# Altium footprint library Connector_Phoenix_MSTB.PcbLib: 180 footprints (part 9 of 12)
Each footprint in its own frame and in the unit in brackets; x right, y up, seen from the top. Pads: shape width x height; smd on the part's side, far side on the other; paste and mask are expansions set on the pad; w line width, h text height; cw(c..) or ccw(c..) is an arc to the next point about the centre after c.
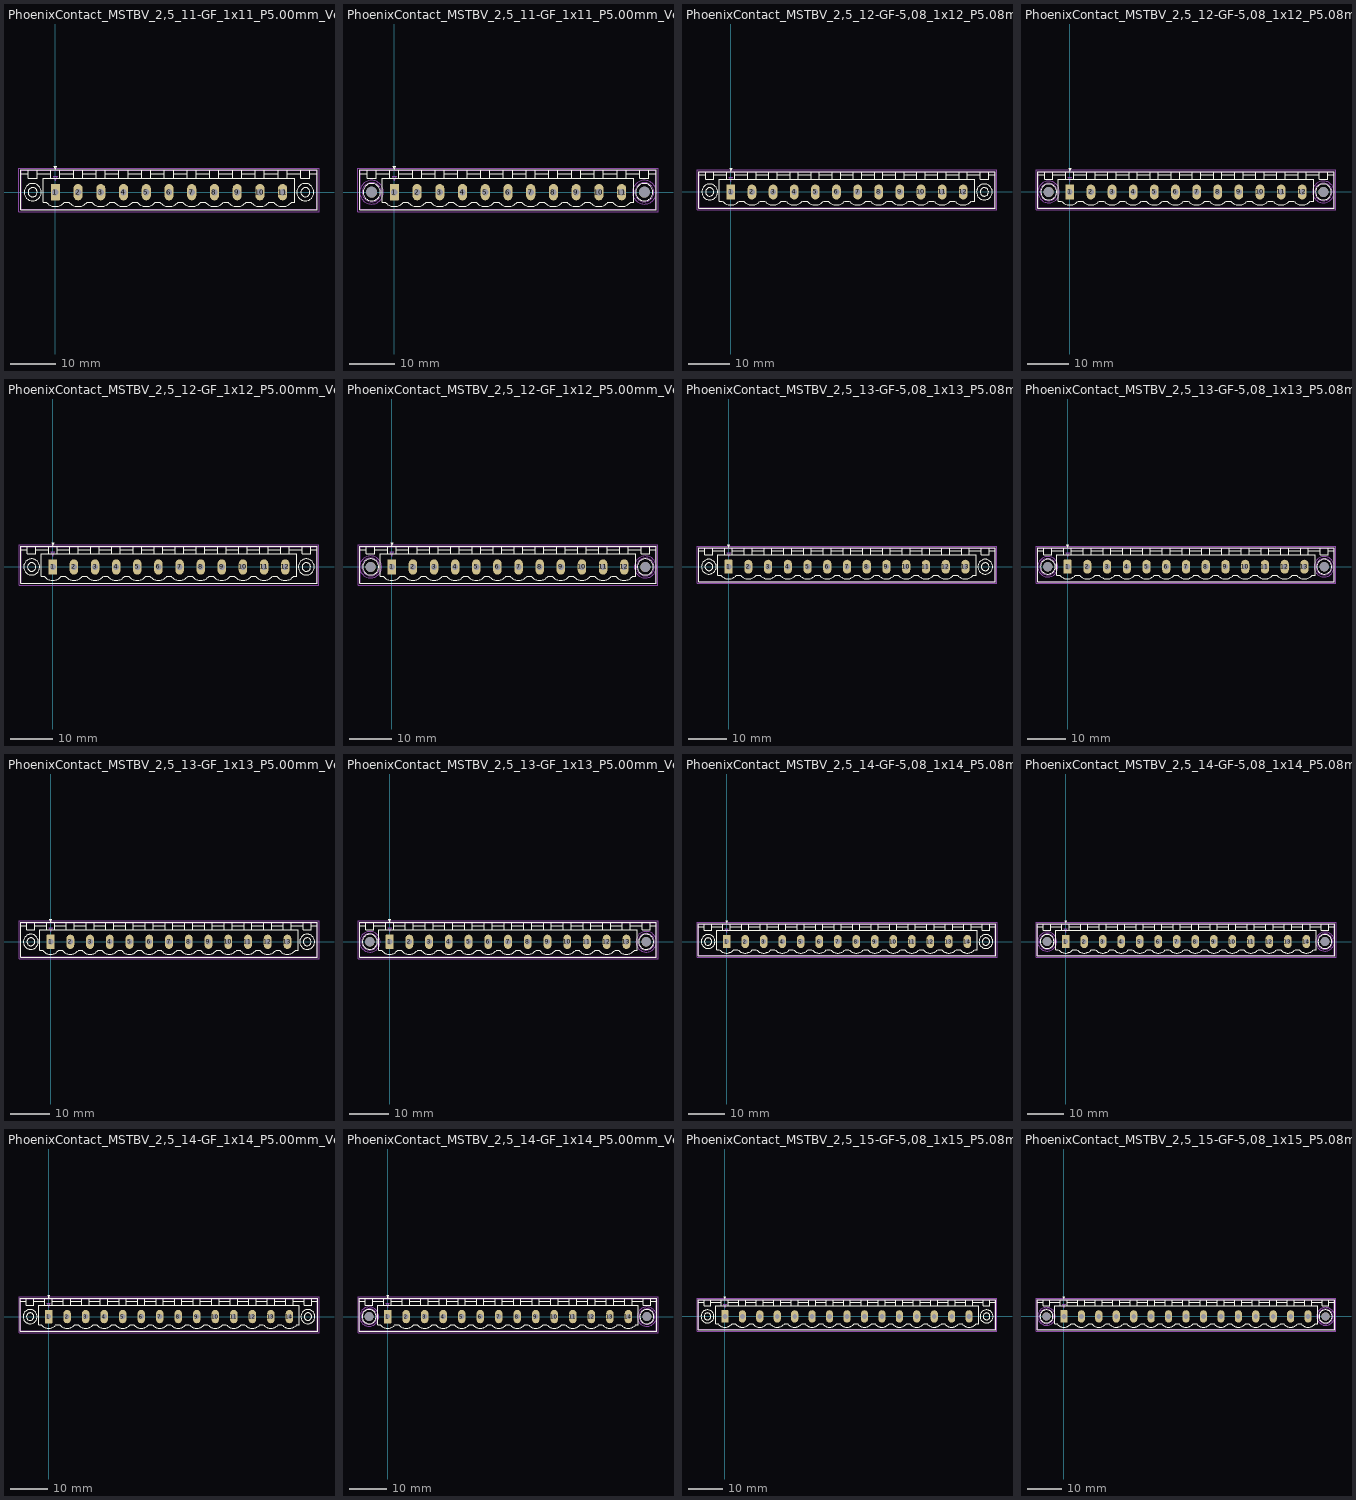
[diagram p8: the footprints below, top view; thin cyan lines are the x and y axes]

## PhoenixContact_MSTBV_2,5_11-GF_1x11_P5.00mm_Vertical_ThreadedFlange [mm]
pads (11):
  rrect12% 2x3.6 hole 1.4: 1(0,0)
  rrect100% 2x3.6 hole 1.4: 2(5,0) 3(10,0) 4(15,0) 5(20,0) 6(25,0) 7(30,0) 8(35,0) 9(40,0) 10(45,0) 11(50,0)
F.SilkS:
  circle w0.254: c55,0 r1.9
  circle w0.254: c55,0 r1
  circle w0.254: c-5,0 r1.9
  circle w0.254: c-5,0 r1
  lines w0.254: -7.61,4.1 -6.11,4.1 ; -4,4.1 -1,4.1 ; 1,4.1 4,4.1 ; 1.987,-2.216 cw(c0,-0.55) -2,-2.2 -2.7,-2.2 -2.7,3.1 52.7,3.1 52.7,-2.2 52,-2.2 ; 2,-2.2 3,-2.2 ccw(c5,-0.55) 6.987,-2.216 ; 6,4.1 9,4.1 ; 7,-2.2 8,-2.2 ccw(c10,-0.55) 11.987,-2.216 ; 11,4.1 14,4.1 ; 12,-2.2 13,-2.2 ccw(c15,-0.55) 16.987,-2.216 ; 16,4.1 19,4.1 ; 17,-2.2 18,-2.2 ccw(c20,-0.55) 21.987,-2.216 ; 21,4.1 24,4.1 ; 22,-2.2 23,-2.2 ccw(c25,-0.55) 26.987,-2.216 ; 26,4.1 29,4.1 ; 27,-2.2 28,-2.2 ccw(c30,-0.55) 31.987,-2.216 ; 31,4.1 34,4.1 ; 32,-2.2 33,-2.2 ccw(c35,-0.55) 36.987,-2.216 ; 36,4.1 39,4.1 ; 37,-2.2 38,-2.2 ccw(c40,-0.55) 41.987,-2.216 ; 41,4.1 44,4.1 ; 42,-2.2 43,-2.2 ccw(c45,-0.55) 46.987,-2.216 ; 46,4.1 49,4.1 ; 47,-2.2 48,-2.2 ccw(c50,-0.55) 51.987,-2.216 ; 51,4.1 54,4.1 ; 56.11,4.1 57.61,4.1 ; -7.61,-3.91 57.61,-3.91 57.61,4.91 -7.61,4.91 -7.61,-3.91 ; -6,3.1 -4,3.1 -4,4.91 -6,4.91 -6,3.1 ; -1,3.1 1,3.1 1,4.91 -1,4.91 -1,3.1 ; -0.3,5.71 0,5.11 0.3,5.71 -0.3,5.71 ; 4,3.1 6,3.1 6,4.91 4,4.91 4,3.1 ; 9,3.1 11,3.1 11,4.91 9,4.91 9,3.1 ; 14,3.1 16,3.1 16,4.91 14,4.91 14,3.1 ; 19,3.1 21,3.1 21,4.91 19,4.91 19,3.1 ; 24,3.1 26,3.1 26,4.91 24,4.91 24,3.1 ; 29,3.1 31,3.1 31,4.91 29,4.91 29,3.1 ; 34,3.1 36,3.1 36,4.91 34,4.91 34,3.1 ; 39,3.1 41,3.1 41,4.91 39,4.91 39,3.1 ; 44,3.1 46,3.1 46,4.91 44,4.91 44,3.1 ; 49,3.1 51,3.1 51,4.91 49,4.91 49,3.1 ; 54,3.1 56,3.1 56,4.91 54,4.91 54,3.1
Top Assembly:
  lines w0.254: -7.5,-3.8 57.5,-3.8 57.5,4.8 -7.5,4.8 -7.5,-3.8 ; -0.5,3.55 0,2.55 0.5,3.55 -0.5,3.55
  text "'.Designator'" at 20.953,3.26 h1
Top Courtyard:
  lines w0.254: -8,-4.3 58,-4.3 58,5.3 -8,5.3 -8,-4.3
Top Designator:
  text ".Designator" at 17.382,0.197 h1.52

## PhoenixContact_MSTBV_2,5_11-GF_1x11_P5.00mm_Vertical_ThreadedFlange_MountHole [mm]
pads (13):
  rrect12% 2x3.6 hole 1.4: 1(0,0)
  rrect100% 2x3.6 hole 1.4: 2(5,0) 3(10,0) 4(15,0) 5(20,0) 6(25,0) 7(30,0) 8(35,0) 9(40,0) 10(45,0) 11(50,0)
  round 2.4 hole 2.4: Un1(-5,0) Un2(55,0)
F.SilkS:
  circle w0.254: c55,0 r1.9
  circle w0.254: c-5,0 r1.9
  lines w0.254: -7.61,4.1 -6.11,4.1 ; -4,4.1 -1,4.1 ; 1,4.1 4,4.1 ; 1.987,-2.216 cw(c0,-0.55) -2,-2.2 -2.7,-2.2 -2.7,3.1 52.7,3.1 52.7,-2.2 52,-2.2 ; 2,-2.2 3,-2.2 ccw(c5,-0.55) 6.987,-2.216 ; 6,4.1 9,4.1 ; 7,-2.2 8,-2.2 ccw(c10,-0.55) 11.987,-2.216 ; 11,4.1 14,4.1 ; 12,-2.2 13,-2.2 ccw(c15,-0.55) 16.987,-2.216 ; 16,4.1 19,4.1 ; 17,-2.2 18,-2.2 ccw(c20,-0.55) 21.987,-2.216 ; 21,4.1 24,4.1 ; 22,-2.2 23,-2.2 ccw(c25,-0.55) 26.987,-2.216 ; 26,4.1 29,4.1 ; 27,-2.2 28,-2.2 ccw(c30,-0.55) 31.987,-2.216 ; 31,4.1 34,4.1 ; 32,-2.2 33,-2.2 ccw(c35,-0.55) 36.987,-2.216 ; 36,4.1 39,4.1 ; 37,-2.2 38,-2.2 ccw(c40,-0.55) 41.987,-2.216 ; 41,4.1 44,4.1 ; 42,-2.2 43,-2.2 ccw(c45,-0.55) 46.987,-2.216 ; 46,4.1 49,4.1 ; 47,-2.2 48,-2.2 ccw(c50,-0.55) 51.987,-2.216 ; 51,4.1 54,4.1 ; 56.11,4.1 57.61,4.1 ; -7.61,-3.91 57.61,-3.91 57.61,4.91 -7.61,4.91 -7.61,-3.91 ; -6,3.1 -4,3.1 -4,4.91 -6,4.91 -6,3.1 ; -1,3.1 1,3.1 1,4.91 -1,4.91 -1,3.1 ; -0.3,5.71 0,5.11 0.3,5.71 -0.3,5.71 ; 4,3.1 6,3.1 6,4.91 4,4.91 4,3.1 ; 9,3.1 11,3.1 11,4.91 9,4.91 9,3.1 ; 14,3.1 16,3.1 16,4.91 14,4.91 14,3.1 ; 19,3.1 21,3.1 21,4.91 19,4.91 19,3.1 ; 24,3.1 26,3.1 26,4.91 24,4.91 24,3.1 ; 29,3.1 31,3.1 31,4.91 29,4.91 29,3.1 ; 34,3.1 36,3.1 36,4.91 34,4.91 34,3.1 ; 39,3.1 41,3.1 41,4.91 39,4.91 39,3.1 ; 44,3.1 46,3.1 46,4.91 44,4.91 44,3.1 ; 49,3.1 51,3.1 51,4.91 49,4.91 49,3.1 ; 54,3.1 56,3.1 56,4.91 54,4.91 54,3.1
B.SilkS:
  circle w0.254: c55,0 r2.21
  circle w0.254: c-5,0 r2.21
Top Assembly:
  lines w0.254: -7.5,-3.8 57.5,-3.8 57.5,4.8 -7.5,4.8 -7.5,-3.8 ; -0.5,3.55 0,2.55 0.5,3.55 -0.5,3.55
  text "'.Designator'" at 20.953,3.26 h1
Bottom Assembly:
  circle w0.254: c55,0 r2.1
  circle w0.254: c-5,0 r2.1
Top Courtyard:
  lines w0.254: -8,-4.3 58,-4.3 58,5.3 -8,5.3 -8,-4.3
Bottom Courtyard:
  circle w0.254: c55,0 r2.6
  circle w0.254: c-5,0 r2.6
Top Designator:
  text ".Designator" at 17.382,0.197 h1.52

## PhoenixContact_MSTBV_2,5_12-GF-5,08_1x12_P5.08mm_Vertical_ThreadedFlange [mm]
pads (12):
  rrect12% 2.08x3.6 hole 1.4: 1(0,0)
  rrect100% 2.08x3.6 hole 1.4: 2(5.08,0) 3(10.16,0) 4(15.24,0) 5(20.32,0) 6(25.4,0) 7(30.48,0) 8(35.56,0) 9(40.64,0) 10(45.72,0) 11(50.8,0) 12(55.88,0)
F.SilkS:
  circle w0.254: c60.96,0 r1.9
  circle w0.254: c60.96,0 r1
  circle w0.254: c-5.08,0 r1.9
  circle w0.254: c-5.08,0 r1
  lines w0.254: -7.73,4.1 -6.19,4.1 ; -4.08,4.1 -1,4.1 ; 1,4.1 4.08,4.1 ; 1.987,-2.216 cw(c0,-0.55) -2,-2.2 -2.74,-2.2 -2.74,3.1 58.62,3.1 58.62,-2.2 57.88,-2.2 ; 2,-2.2 3.08,-2.2 ccw(c5.08,-0.55) 7.067,-2.216 ; 6.08,4.1 9.16,4.1 ; 7.08,-2.2 8.16,-2.2 ccw(c10.16,-0.55) 12.147,-2.216 ; 11.16,4.1 14.24,4.1 ; 12.16,-2.2 13.24,-2.2 ccw(c15.24,-0.55) 17.227,-2.216 ; 16.24,4.1 19.32,4.1 ; 17.24,-2.2 18.32,-2.2 ccw(c20.32,-0.55) 22.307,-2.216 ; 21.32,4.1 24.4,4.1 ; 22.32,-2.2 23.4,-2.2 ccw(c25.4,-0.55) 27.387,-2.216 ; 26.4,4.1 29.48,4.1 ; 27.4,-2.2 28.48,-2.2 ccw(c30.48,-0.55) 32.467,-2.216 ; 31.48,4.1 34.56,4.1 ; 32.48,-2.2 33.56,-2.2 ccw(c35.56,-0.55) 37.547,-2.216 ; 36.56,4.1 39.64,4.1 ; 37.56,-2.2 38.64,-2.2 ccw(c40.64,-0.55) 42.627,-2.216 ; 41.64,4.1 44.72,4.1 ; 42.64,-2.2 43.72,-2.2 ccw(c45.72,-0.55) 47.707,-2.216 ; 46.72,4.1 49.8,4.1 ; 47.72,-2.2 48.8,-2.2 ccw(c50.8,-0.55) 52.787,-2.216 ; 51.8,4.1 54.88,4.1 ; 52.8,-2.2 53.88,-2.2 ccw(c55.88,-0.55) 57.867,-2.216 ; 56.88,4.1 59.96,4.1 ; 62.07,4.1 63.61,4.1 ; -7.73,-3.91 63.61,-3.91 63.61,4.91 -7.73,4.91 -7.73,-3.91 ; -6.08,3.1 -4.08,3.1 -4.08,4.91 -6.08,4.91 -6.08,3.1 ; -1,3.1 1,3.1 1,4.91 -1,4.91 -1,3.1 ; -0.3,5.71 0,5.11 0.3,5.71 -0.3,5.71 ; 4.08,3.1 6.08,3.1 6.08,4.91 4.08,4.91 4.08,3.1 ; 9.16,3.1 11.16,3.1 11.16,4.91 9.16,4.91 9.16,3.1 ; 14.24,3.1 16.24,3.1 16.24,4.91 14.24,4.91 14.24,3.1 ; 19.32,3.1 21.32,3.1 21.32,4.91 19.32,4.91 19.32,3.1 ; 24.4,3.1 26.4,3.1 26.4,4.91 24.4,4.91 24.4,3.1 ; 29.48,3.1 31.48,3.1 31.48,4.91 29.48,4.91 29.48,3.1 ; 34.56,3.1 36.56,3.1 36.56,4.91 34.56,4.91 34.56,3.1 ; 39.64,3.1 41.64,3.1 41.64,4.91 39.64,4.91 39.64,3.1 ; 44.72,3.1 46.72,3.1 46.72,4.91 44.72,4.91 44.72,3.1 ; 49.8,3.1 51.8,3.1 51.8,4.91 49.8,4.91 49.8,3.1 ; 54.88,3.1 56.88,3.1 56.88,4.91 54.88,4.91 54.88,3.1 ; 59.96,3.1 61.96,3.1 61.96,4.91 59.96,4.91 59.96,3.1
Top Assembly:
  lines w0.254: -7.62,-3.8 63.5,-3.8 63.5,4.8 -7.62,4.8 -7.62,-3.8 ; -0.5,3.55 0,2.55 0.5,3.55 -0.5,3.55
  text "'.Designator'" at 23.893,3.26 h1
Top Courtyard:
  lines w0.254: -8.13,-4.3 64,-4.3 64,5.3 -8.13,5.3 -8.13,-4.3
Top Designator:
  text ".Designator" at 20.317,0.197 h1.52

## PhoenixContact_MSTBV_2,5_12-GF-5,08_1x12_P5.08mm_Vertical_ThreadedFlange_MountHole [mm]
pads (14):
  rrect12% 2.08x3.6 hole 1.4: 1(0,0)
  rrect100% 2.08x3.6 hole 1.4: 2(5.08,0) 3(10.16,0) 4(15.24,0) 5(20.32,0) 6(25.4,0) 7(30.48,0) 8(35.56,0) 9(40.64,0) 10(45.72,0) 11(50.8,0) 12(55.88,0)
  round 2.4 hole 2.4: Un1(-5.08,0) Un2(60.96,0)
F.SilkS:
  circle w0.254: c60.96,0 r1.9
  circle w0.254: c-5.08,0 r1.9
  lines w0.254: -7.73,4.1 -6.19,4.1 ; -4.08,4.1 -1,4.1 ; 1,4.1 4.08,4.1 ; 1.987,-2.216 cw(c0,-0.55) -2,-2.2 -2.74,-2.2 -2.74,3.1 58.62,3.1 58.62,-2.2 57.88,-2.2 ; 2,-2.2 3.08,-2.2 ccw(c5.08,-0.55) 7.067,-2.216 ; 6.08,4.1 9.16,4.1 ; 7.08,-2.2 8.16,-2.2 ccw(c10.16,-0.55) 12.147,-2.216 ; 11.16,4.1 14.24,4.1 ; 12.16,-2.2 13.24,-2.2 ccw(c15.24,-0.55) 17.227,-2.216 ; 16.24,4.1 19.32,4.1 ; 17.24,-2.2 18.32,-2.2 ccw(c20.32,-0.55) 22.307,-2.216 ; 21.32,4.1 24.4,4.1 ; 22.32,-2.2 23.4,-2.2 ccw(c25.4,-0.55) 27.387,-2.216 ; 26.4,4.1 29.48,4.1 ; 27.4,-2.2 28.48,-2.2 ccw(c30.48,-0.55) 32.467,-2.216 ; 31.48,4.1 34.56,4.1 ; 32.48,-2.2 33.56,-2.2 ccw(c35.56,-0.55) 37.547,-2.216 ; 36.56,4.1 39.64,4.1 ; 37.56,-2.2 38.64,-2.2 ccw(c40.64,-0.55) 42.627,-2.216 ; 41.64,4.1 44.72,4.1 ; 42.64,-2.2 43.72,-2.2 ccw(c45.72,-0.55) 47.707,-2.216 ; 46.72,4.1 49.8,4.1 ; 47.72,-2.2 48.8,-2.2 ccw(c50.8,-0.55) 52.787,-2.216 ; 51.8,4.1 54.88,4.1 ; 52.8,-2.2 53.88,-2.2 ccw(c55.88,-0.55) 57.867,-2.216 ; 56.88,4.1 59.96,4.1 ; 62.07,4.1 63.61,4.1 ; -7.73,-3.91 63.61,-3.91 63.61,4.91 -7.73,4.91 -7.73,-3.91 ; -6.08,3.1 -4.08,3.1 -4.08,4.91 -6.08,4.91 -6.08,3.1 ; -1,3.1 1,3.1 1,4.91 -1,4.91 -1,3.1 ; -0.3,5.71 0,5.11 0.3,5.71 -0.3,5.71 ; 4.08,3.1 6.08,3.1 6.08,4.91 4.08,4.91 4.08,3.1 ; 9.16,3.1 11.16,3.1 11.16,4.91 9.16,4.91 9.16,3.1 ; 14.24,3.1 16.24,3.1 16.24,4.91 14.24,4.91 14.24,3.1 ; 19.32,3.1 21.32,3.1 21.32,4.91 19.32,4.91 19.32,3.1 ; 24.4,3.1 26.4,3.1 26.4,4.91 24.4,4.91 24.4,3.1 ; 29.48,3.1 31.48,3.1 31.48,4.91 29.48,4.91 29.48,3.1 ; 34.56,3.1 36.56,3.1 36.56,4.91 34.56,4.91 34.56,3.1 ; 39.64,3.1 41.64,3.1 41.64,4.91 39.64,4.91 39.64,3.1 ; 44.72,3.1 46.72,3.1 46.72,4.91 44.72,4.91 44.72,3.1 ; 49.8,3.1 51.8,3.1 51.8,4.91 49.8,4.91 49.8,3.1 ; 54.88,3.1 56.88,3.1 56.88,4.91 54.88,4.91 54.88,3.1 ; 59.96,3.1 61.96,3.1 61.96,4.91 59.96,4.91 59.96,3.1
B.SilkS:
  circle w0.254: c60.96,0 r2.21
  circle w0.254: c-5.08,0 r2.21
Top Assembly:
  lines w0.254: -7.62,-3.8 63.5,-3.8 63.5,4.8 -7.62,4.8 -7.62,-3.8 ; -0.5,3.55 0,2.55 0.5,3.55 -0.5,3.55
  text "'.Designator'" at 23.893,3.26 h1
Bottom Assembly:
  circle w0.254: c60.96,0 r2.1
  circle w0.254: c-5.08,0 r2.1
Top Courtyard:
  lines w0.254: -8.13,-4.3 64,-4.3 64,5.3 -8.13,5.3 -8.13,-4.3
Bottom Courtyard:
  circle w0.254: c60.96,0 r2.6
  circle w0.254: c-5.08,0 r2.6
Top Designator:
  text ".Designator" at 20.317,0.197 h1.52

## PhoenixContact_MSTBV_2,5_12-GF_1x12_P5.00mm_Vertical_ThreadedFlange [mm]
pads (12):
  rrect12% 2x3.6 hole 1.4: 1(0,0)
  rrect100% 2x3.6 hole 1.4: 2(5,0) 3(10,0) 4(15,0) 5(20,0) 6(25,0) 7(30,0) 8(35,0) 9(40,0) 10(45,0) 11(50,0) 12(55,0)
F.SilkS:
  circle w0.254: c60,0 r1.9
  circle w0.254: c60,0 r1
  circle w0.254: c-5,0 r1.9
  circle w0.254: c-5,0 r1
  lines w0.254: -7.61,4.1 -6.11,4.1 ; -4,4.1 -1,4.1 ; 1,4.1 4,4.1 ; 1.987,-2.216 cw(c0,-0.55) -2,-2.2 -2.7,-2.2 -2.7,3.1 57.7,3.1 57.7,-2.2 57,-2.2 ; 2,-2.2 3,-2.2 ccw(c5,-0.55) 6.987,-2.216 ; 6,4.1 9,4.1 ; 7,-2.2 8,-2.2 ccw(c10,-0.55) 11.987,-2.216 ; 11,4.1 14,4.1 ; 12,-2.2 13,-2.2 ccw(c15,-0.55) 16.987,-2.216 ; 16,4.1 19,4.1 ; 17,-2.2 18,-2.2 ccw(c20,-0.55) 21.987,-2.216 ; 21,4.1 24,4.1 ; 22,-2.2 23,-2.2 ccw(c25,-0.55) 26.987,-2.216 ; 26,4.1 29,4.1 ; 27,-2.2 28,-2.2 ccw(c30,-0.55) 31.987,-2.216 ; 31,4.1 34,4.1 ; 32,-2.2 33,-2.2 ccw(c35,-0.55) 36.987,-2.216 ; 36,4.1 39,4.1 ; 37,-2.2 38,-2.2 ccw(c40,-0.55) 41.987,-2.216 ; 41,4.1 44,4.1 ; 42,-2.2 43,-2.2 ccw(c45,-0.55) 46.987,-2.216 ; 46,4.1 49,4.1 ; 47,-2.2 48,-2.2 ccw(c50,-0.55) 51.987,-2.216 ; 51,4.1 54,4.1 ; 52,-2.2 53,-2.2 ccw(c55,-0.55) 56.987,-2.216 ; 56,4.1 59,4.1 ; 61.11,4.1 62.61,4.1 ; -7.61,-3.91 62.61,-3.91 62.61,4.91 -7.61,4.91 -7.61,-3.91 ; -6,3.1 -4,3.1 -4,4.91 -6,4.91 -6,3.1 ; -1,3.1 1,3.1 1,4.91 -1,4.91 -1,3.1 ; -0.3,5.71 0,5.11 0.3,5.71 -0.3,5.71 ; 4,3.1 6,3.1 6,4.91 4,4.91 4,3.1 ; 9,3.1 11,3.1 11,4.91 9,4.91 9,3.1 ; 14,3.1 16,3.1 16,4.91 14,4.91 14,3.1 ; 19,3.1 21,3.1 21,4.91 19,4.91 19,3.1 ; 24,3.1 26,3.1 26,4.91 24,4.91 24,3.1 ; 29,3.1 31,3.1 31,4.91 29,4.91 29,3.1 ; 34,3.1 36,3.1 36,4.91 34,4.91 34,3.1 ; 39,3.1 41,3.1 41,4.91 39,4.91 39,3.1 ; 44,3.1 46,3.1 46,4.91 44,4.91 44,3.1 ; 49,3.1 51,3.1 51,4.91 49,4.91 49,3.1 ; 54,3.1 56,3.1 56,4.91 54,4.91 54,3.1 ; 59,3.1 61,3.1 61,4.91 59,4.91 59,3.1
Top Assembly:
  lines w0.254: -7.5,-3.8 62.5,-3.8 62.5,4.8 -7.5,4.8 -7.5,-3.8 ; -0.5,3.55 0,2.55 0.5,3.55 -0.5,3.55
  text "'.Designator'" at 23.453,3.26 h1
Top Courtyard:
  lines w0.254: -8,-4.3 63,-4.3 63,5.3 -8,5.3 -8,-4.3
Top Designator:
  text ".Designator" at 19.882,0.197 h1.52

## PhoenixContact_MSTBV_2,5_12-GF_1x12_P5.00mm_Vertical_ThreadedFlange_MountHole [mm]
pads (14):
  rrect12% 2x3.6 hole 1.4: 1(0,0)
  rrect100% 2x3.6 hole 1.4: 2(5,0) 3(10,0) 4(15,0) 5(20,0) 6(25,0) 7(30,0) 8(35,0) 9(40,0) 10(45,0) 11(50,0) 12(55,0)
  round 2.4 hole 2.4: Un1(-5,0) Un2(60,0)
F.SilkS:
  circle w0.254: c60,0 r1.9
  circle w0.254: c-5,0 r1.9
  lines w0.254: -7.61,4.1 -6.11,4.1 ; -4,4.1 -1,4.1 ; 1,4.1 4,4.1 ; 1.987,-2.216 cw(c0,-0.55) -2,-2.2 -2.7,-2.2 -2.7,3.1 57.7,3.1 57.7,-2.2 57,-2.2 ; 2,-2.2 3,-2.2 ccw(c5,-0.55) 6.987,-2.216 ; 6,4.1 9,4.1 ; 7,-2.2 8,-2.2 ccw(c10,-0.55) 11.987,-2.216 ; 11,4.1 14,4.1 ; 12,-2.2 13,-2.2 ccw(c15,-0.55) 16.987,-2.216 ; 16,4.1 19,4.1 ; 17,-2.2 18,-2.2 ccw(c20,-0.55) 21.987,-2.216 ; 21,4.1 24,4.1 ; 22,-2.2 23,-2.2 ccw(c25,-0.55) 26.987,-2.216 ; 26,4.1 29,4.1 ; 27,-2.2 28,-2.2 ccw(c30,-0.55) 31.987,-2.216 ; 31,4.1 34,4.1 ; 32,-2.2 33,-2.2 ccw(c35,-0.55) 36.987,-2.216 ; 36,4.1 39,4.1 ; 37,-2.2 38,-2.2 ccw(c40,-0.55) 41.987,-2.216 ; 41,4.1 44,4.1 ; 42,-2.2 43,-2.2 ccw(c45,-0.55) 46.987,-2.216 ; 46,4.1 49,4.1 ; 47,-2.2 48,-2.2 ccw(c50,-0.55) 51.987,-2.216 ; 51,4.1 54,4.1 ; 52,-2.2 53,-2.2 ccw(c55,-0.55) 56.987,-2.216 ; 56,4.1 59,4.1 ; 61.11,4.1 62.61,4.1 ; -7.61,-3.91 62.61,-3.91 62.61,4.91 -7.61,4.91 -7.61,-3.91 ; -6,3.1 -4,3.1 -4,4.91 -6,4.91 -6,3.1 ; -1,3.1 1,3.1 1,4.91 -1,4.91 -1,3.1 ; -0.3,5.71 0,5.11 0.3,5.71 -0.3,5.71 ; 4,3.1 6,3.1 6,4.91 4,4.91 4,3.1 ; 9,3.1 11,3.1 11,4.91 9,4.91 9,3.1 ; 14,3.1 16,3.1 16,4.91 14,4.91 14,3.1 ; 19,3.1 21,3.1 21,4.91 19,4.91 19,3.1 ; 24,3.1 26,3.1 26,4.91 24,4.91 24,3.1 ; 29,3.1 31,3.1 31,4.91 29,4.91 29,3.1 ; 34,3.1 36,3.1 36,4.91 34,4.91 34,3.1 ; 39,3.1 41,3.1 41,4.91 39,4.91 39,3.1 ; 44,3.1 46,3.1 46,4.91 44,4.91 44,3.1 ; 49,3.1 51,3.1 51,4.91 49,4.91 49,3.1 ; 54,3.1 56,3.1 56,4.91 54,4.91 54,3.1 ; 59,3.1 61,3.1 61,4.91 59,4.91 59,3.1
B.SilkS:
  circle w0.254: c60,0 r2.21
  circle w0.254: c-5,0 r2.21
Top Assembly:
  lines w0.254: -7.5,-3.8 62.5,-3.8 62.5,4.8 -7.5,4.8 -7.5,-3.8 ; -0.5,3.55 0,2.55 0.5,3.55 -0.5,3.55
  text "'.Designator'" at 23.453,3.26 h1
Bottom Assembly:
  circle w0.254: c60,0 r2.1
  circle w0.254: c-5,0 r2.1
Top Courtyard:
  lines w0.254: -8,-4.3 63,-4.3 63,5.3 -8,5.3 -8,-4.3
Bottom Courtyard:
  circle w0.254: c60,0 r2.6
  circle w0.254: c-5,0 r2.6
Top Designator:
  text ".Designator" at 19.882,0.197 h1.52

## PhoenixContact_MSTBV_2,5_13-GF-5,08_1x13_P5.08mm_Vertical_ThreadedFlange [mm]
pads (13):
  rrect12% 2.08x3.6 hole 1.4: 1(0,0)
  rrect100% 2.08x3.6 hole 1.4: 2(5.08,0) 3(10.16,0) 4(15.24,0) 5(20.32,0) 6(25.4,0) 7(30.48,0) 8(35.56,0) 9(40.64,0) 10(45.72,0) 11(50.8,0) 12(55.88,0) 13(60.96,0)
F.SilkS:
  circle w0.254: c66.04,0 r1.9
  circle w0.254: c66.04,0 r1
  circle w0.254: c-5.08,0 r1.9
  circle w0.254: c-5.08,0 r1
  lines w0.254: -7.73,4.1 -6.19,4.1 ; -4.08,4.1 -1,4.1 ; 1,4.1 4.08,4.1 ; 1.987,-2.216 cw(c0,-0.55) -2,-2.2 -2.74,-2.2 -2.74,3.1 63.7,3.1 63.7,-2.2 62.96,-2.2 ; 2,-2.2 3.08,-2.2 ccw(c5.08,-0.55) 7.067,-2.216 ; 6.08,4.1 9.16,4.1 ; 7.08,-2.2 8.16,-2.2 ccw(c10.16,-0.55) 12.147,-2.216 ; 11.16,4.1 14.24,4.1 ; 12.16,-2.2 13.24,-2.2 ccw(c15.24,-0.55) 17.227,-2.216 ; 16.24,4.1 19.32,4.1 ; 17.24,-2.2 18.32,-2.2 ccw(c20.32,-0.55) 22.307,-2.216 ; 21.32,4.1 24.4,4.1 ; 22.32,-2.2 23.4,-2.2 ccw(c25.4,-0.55) 27.387,-2.216 ; 26.4,4.1 29.48,4.1 ; 27.4,-2.2 28.48,-2.2 ccw(c30.48,-0.55) 32.467,-2.216 ; 31.48,4.1 34.56,4.1 ; 32.48,-2.2 33.56,-2.2 ccw(c35.56,-0.55) 37.547,-2.216 ; 36.56,4.1 39.64,4.1 ; 37.56,-2.2 38.64,-2.2 ccw(c40.64,-0.55) 42.627,-2.216 ; 41.64,4.1 44.72,4.1 ; 42.64,-2.2 43.72,-2.2 ccw(c45.72,-0.55) 47.707,-2.216 ; 46.72,4.1 49.8,4.1 ; 47.72,-2.2 48.8,-2.2 ccw(c50.8,-0.55) 52.787,-2.216 ; 51.8,4.1 54.88,4.1 ; 52.8,-2.2 53.88,-2.2 ccw(c55.88,-0.55) 57.867,-2.216 ; 56.88,4.1 59.96,4.1 ; 57.88,-2.2 58.96,-2.2 ccw(c60.96,-0.55) 62.947,-2.216 ; 61.96,4.1 65.04,4.1 ; 67.15,4.1 68.69,4.1 ; -7.73,-3.91 68.69,-3.91 68.69,4.91 -7.73,4.91 -7.73,-3.91 ; -6.08,3.1 -4.08,3.1 -4.08,4.91 -6.08,4.91 -6.08,3.1 ; -1,3.1 1,3.1 1,4.91 -1,4.91 -1,3.1 ; -0.3,5.71 0,5.11 0.3,5.71 -0.3,5.71 ; 4.08,3.1 6.08,3.1 6.08,4.91 4.08,4.91 4.08,3.1 ; 9.16,3.1 11.16,3.1 11.16,4.91 9.16,4.91 9.16,3.1 ; 14.24,3.1 16.24,3.1 16.24,4.91 14.24,4.91 14.24,3.1 ; 19.32,3.1 21.32,3.1 21.32,4.91 19.32,4.91 19.32,3.1 ; 24.4,3.1 26.4,3.1 26.4,4.91 24.4,4.91 24.4,3.1 ; 29.48,3.1 31.48,3.1 31.48,4.91 29.48,4.91 29.48,3.1 ; 34.56,3.1 36.56,3.1 36.56,4.91 34.56,4.91 34.56,3.1 ; 39.64,3.1 41.64,3.1 41.64,4.91 39.64,4.91 39.64,3.1 ; 44.72,3.1 46.72,3.1 46.72,4.91 44.72,4.91 44.72,3.1 ; 49.8,3.1 51.8,3.1 51.8,4.91 49.8,4.91 49.8,3.1 ; 54.88,3.1 56.88,3.1 56.88,4.91 54.88,4.91 54.88,3.1 ; 59.96,3.1 61.96,3.1 61.96,4.91 59.96,4.91 59.96,3.1 ; 65.04,3.1 67.04,3.1 67.04,4.91 65.04,4.91 65.04,3.1
Top Assembly:
  lines w0.254: -7.62,-3.8 68.58,-3.8 68.58,4.8 -7.62,4.8 -7.62,-3.8 ; -0.5,3.55 0,2.55 0.5,3.55 -0.5,3.55
  text "'.Designator'" at 26.433,3.26 h1
Top Courtyard:
  lines w0.254: -8.13,-4.3 69.08,-4.3 69.08,5.3 -8.13,5.3 -8.13,-4.3
Top Designator:
  text ".Designator" at 22.857,0.197 h1.52

## PhoenixContact_MSTBV_2,5_13-GF-5,08_1x13_P5.08mm_Vertical_ThreadedFlange_MountHole [mm]
pads (15):
  rrect12% 2.08x3.6 hole 1.4: 1(0,0)
  rrect100% 2.08x3.6 hole 1.4: 2(5.08,0) 3(10.16,0) 4(15.24,0) 5(20.32,0) 6(25.4,0) 7(30.48,0) 8(35.56,0) 9(40.64,0) 10(45.72,0) 11(50.8,0) 12(55.88,0) 13(60.96,0)
  round 2.4 hole 2.4: Un1(-5.08,0) Un2(66.04,0)
F.SilkS:
  circle w0.254: c66.04,0 r1.9
  circle w0.254: c-5.08,0 r1.9
  lines w0.254: -7.73,4.1 -6.19,4.1 ; -4.08,4.1 -1,4.1 ; 1,4.1 4.08,4.1 ; 1.987,-2.216 cw(c0,-0.55) -2,-2.2 -2.74,-2.2 -2.74,3.1 63.7,3.1 63.7,-2.2 62.96,-2.2 ; 2,-2.2 3.08,-2.2 ccw(c5.08,-0.55) 7.067,-2.216 ; 6.08,4.1 9.16,4.1 ; 7.08,-2.2 8.16,-2.2 ccw(c10.16,-0.55) 12.147,-2.216 ; 11.16,4.1 14.24,4.1 ; 12.16,-2.2 13.24,-2.2 ccw(c15.24,-0.55) 17.227,-2.216 ; 16.24,4.1 19.32,4.1 ; 17.24,-2.2 18.32,-2.2 ccw(c20.32,-0.55) 22.307,-2.216 ; 21.32,4.1 24.4,4.1 ; 22.32,-2.2 23.4,-2.2 ccw(c25.4,-0.55) 27.387,-2.216 ; 26.4,4.1 29.48,4.1 ; 27.4,-2.2 28.48,-2.2 ccw(c30.48,-0.55) 32.467,-2.216 ; 31.48,4.1 34.56,4.1 ; 32.48,-2.2 33.56,-2.2 ccw(c35.56,-0.55) 37.547,-2.216 ; 36.56,4.1 39.64,4.1 ; 37.56,-2.2 38.64,-2.2 ccw(c40.64,-0.55) 42.627,-2.216 ; 41.64,4.1 44.72,4.1 ; 42.64,-2.2 43.72,-2.2 ccw(c45.72,-0.55) 47.707,-2.216 ; 46.72,4.1 49.8,4.1 ; 47.72,-2.2 48.8,-2.2 ccw(c50.8,-0.55) 52.787,-2.216 ; 51.8,4.1 54.88,4.1 ; 52.8,-2.2 53.88,-2.2 ccw(c55.88,-0.55) 57.867,-2.216 ; 56.88,4.1 59.96,4.1 ; 57.88,-2.2 58.96,-2.2 ccw(c60.96,-0.55) 62.947,-2.216 ; 61.96,4.1 65.04,4.1 ; 67.15,4.1 68.69,4.1 ; -7.73,-3.91 68.69,-3.91 68.69,4.91 -7.73,4.91 -7.73,-3.91 ; -6.08,3.1 -4.08,3.1 -4.08,4.91 -6.08,4.91 -6.08,3.1 ; -1,3.1 1,3.1 1,4.91 -1,4.91 -1,3.1 ; -0.3,5.71 0,5.11 0.3,5.71 -0.3,5.71 ; 4.08,3.1 6.08,3.1 6.08,4.91 4.08,4.91 4.08,3.1 ; 9.16,3.1 11.16,3.1 11.16,4.91 9.16,4.91 9.16,3.1 ; 14.24,3.1 16.24,3.1 16.24,4.91 14.24,4.91 14.24,3.1 ; 19.32,3.1 21.32,3.1 21.32,4.91 19.32,4.91 19.32,3.1 ; 24.4,3.1 26.4,3.1 26.4,4.91 24.4,4.91 24.4,3.1 ; 29.48,3.1 31.48,3.1 31.48,4.91 29.48,4.91 29.48,3.1 ; 34.56,3.1 36.56,3.1 36.56,4.91 34.56,4.91 34.56,3.1 ; 39.64,3.1 41.64,3.1 41.64,4.91 39.64,4.91 39.64,3.1 ; 44.72,3.1 46.72,3.1 46.72,4.91 44.72,4.91 44.72,3.1 ; 49.8,3.1 51.8,3.1 51.8,4.91 49.8,4.91 49.8,3.1 ; 54.88,3.1 56.88,3.1 56.88,4.91 54.88,4.91 54.88,3.1 ; 59.96,3.1 61.96,3.1 61.96,4.91 59.96,4.91 59.96,3.1 ; 65.04,3.1 67.04,3.1 67.04,4.91 65.04,4.91 65.04,3.1
B.SilkS:
  circle w0.254: c66.04,0 r2.21
  circle w0.254: c-5.08,0 r2.21
Top Assembly:
  lines w0.254: -7.62,-3.8 68.58,-3.8 68.58,4.8 -7.62,4.8 -7.62,-3.8 ; -0.5,3.55 0,2.55 0.5,3.55 -0.5,3.55
  text "'.Designator'" at 26.433,3.26 h1
Bottom Assembly:
  circle w0.254: c66.04,0 r2.1
  circle w0.254: c-5.08,0 r2.1
Top Courtyard:
  lines w0.254: -8.13,-4.3 69.08,-4.3 69.08,5.3 -8.13,5.3 -8.13,-4.3
Bottom Courtyard:
  circle w0.254: c66.04,0 r2.6
  circle w0.254: c-5.08,0 r2.6
Top Designator:
  text ".Designator" at 22.857,0.197 h1.52

## PhoenixContact_MSTBV_2,5_13-GF_1x13_P5.00mm_Vertical_ThreadedFlange [mm]
pads (13):
  rrect12% 2x3.6 hole 1.4: 1(0,0)
  rrect100% 2x3.6 hole 1.4: 2(5,0) 3(10,0) 4(15,0) 5(20,0) 6(25,0) 7(30,0) 8(35,0) 9(40,0) 10(45,0) 11(50,0) 12(55,0) 13(60,0)
F.SilkS:
  circle w0.254: c65,0 r1.9
  circle w0.254: c65,0 r1
  circle w0.254: c-5,0 r1.9
  circle w0.254: c-5,0 r1
  lines w0.254: -7.61,4.1 -6.11,4.1 ; -4,4.1 -1,4.1 ; 1,4.1 4,4.1 ; 1.987,-2.216 cw(c0,-0.55) -2,-2.2 -2.7,-2.2 -2.7,3.1 62.7,3.1 62.7,-2.2 62,-2.2 ; 2,-2.2 3,-2.2 ccw(c5,-0.55) 6.987,-2.216 ; 6,4.1 9,4.1 ; 7,-2.2 8,-2.2 ccw(c10,-0.55) 11.987,-2.216 ; 11,4.1 14,4.1 ; 12,-2.2 13,-2.2 ccw(c15,-0.55) 16.987,-2.216 ; 16,4.1 19,4.1 ; 17,-2.2 18,-2.2 ccw(c20,-0.55) 21.987,-2.216 ; 21,4.1 24,4.1 ; 22,-2.2 23,-2.2 ccw(c25,-0.55) 26.987,-2.216 ; 26,4.1 29,4.1 ; 27,-2.2 28,-2.2 ccw(c30,-0.55) 31.987,-2.216 ; 31,4.1 34,4.1 ; 32,-2.2 33,-2.2 ccw(c35,-0.55) 36.987,-2.216 ; 36,4.1 39,4.1 ; 37,-2.2 38,-2.2 ccw(c40,-0.55) 41.987,-2.216 ; 41,4.1 44,4.1 ; 42,-2.2 43,-2.2 ccw(c45,-0.55) 46.987,-2.216 ; 46,4.1 49,4.1 ; 47,-2.2 48,-2.2 ccw(c50,-0.55) 51.987,-2.216 ; 51,4.1 54,4.1 ; 52,-2.2 53,-2.2 ccw(c55,-0.55) 56.987,-2.216 ; 56,4.1 59,4.1 ; 57,-2.2 58,-2.2 ccw(c60,-0.55) 61.987,-2.216 ; 61,4.1 64,4.1 ; 66.11,4.1 67.61,4.1 ; -7.61,-3.91 67.61,-3.91 67.61,4.91 -7.61,4.91 -7.61,-3.91 ; -6,3.1 -4,3.1 -4,4.91 -6,4.91 -6,3.1 ; -1,3.1 1,3.1 1,4.91 -1,4.91 -1,3.1 ; -0.3,5.71 0,5.11 0.3,5.71 -0.3,5.71 ; 4,3.1 6,3.1 6,4.91 4,4.91 4,3.1 ; 9,3.1 11,3.1 11,4.91 9,4.91 9,3.1 ; 14,3.1 16,3.1 16,4.91 14,4.91 14,3.1 ; 19,3.1 21,3.1 21,4.91 19,4.91 19,3.1 ; 24,3.1 26,3.1 26,4.91 24,4.91 24,3.1 ; 29,3.1 31,3.1 31,4.91 29,4.91 29,3.1 ; 34,3.1 36,3.1 36,4.91 34,4.91 34,3.1 ; 39,3.1 41,3.1 41,4.91 39,4.91 39,3.1 ; 44,3.1 46,3.1 46,4.91 44,4.91 44,3.1 ; 49,3.1 51,3.1 51,4.91 49,4.91 49,3.1 ; 54,3.1 56,3.1 56,4.91 54,4.91 54,3.1 ; 59,3.1 61,3.1 61,4.91 59,4.91 59,3.1 ; 64,3.1 66,3.1 66,4.91 64,4.91 64,3.1
Top Assembly:
  lines w0.254: -7.5,-3.8 67.5,-3.8 67.5,4.8 -7.5,4.8 -7.5,-3.8 ; -0.5,3.55 0,2.55 0.5,3.55 -0.5,3.55
  text "'.Designator'" at 25.953,3.26 h1
Top Courtyard:
  lines w0.254: -8,-4.3 68,-4.3 68,5.3 -8,5.3 -8,-4.3
Top Designator:
  text ".Designator" at 22.382,0.197 h1.52

## PhoenixContact_MSTBV_2,5_13-GF_1x13_P5.00mm_Vertical_ThreadedFlange_MountHole [mm]
pads (15):
  rrect12% 2x3.6 hole 1.4: 1(0,0)
  rrect100% 2x3.6 hole 1.4: 2(5,0) 3(10,0) 4(15,0) 5(20,0) 6(25,0) 7(30,0) 8(35,0) 9(40,0) 10(45,0) 11(50,0) 12(55,0) 13(60,0)
  round 2.4 hole 2.4: Un1(-5,0) Un2(65,0)
F.SilkS:
  circle w0.254: c65,0 r1.9
  circle w0.254: c-5,0 r1.9
  lines w0.254: -7.61,4.1 -6.11,4.1 ; -4,4.1 -1,4.1 ; 1,4.1 4,4.1 ; 1.987,-2.216 cw(c0,-0.55) -2,-2.2 -2.7,-2.2 -2.7,3.1 62.7,3.1 62.7,-2.2 62,-2.2 ; 2,-2.2 3,-2.2 ccw(c5,-0.55) 6.987,-2.216 ; 6,4.1 9,4.1 ; 7,-2.2 8,-2.2 ccw(c10,-0.55) 11.987,-2.216 ; 11,4.1 14,4.1 ; 12,-2.2 13,-2.2 ccw(c15,-0.55) 16.987,-2.216 ; 16,4.1 19,4.1 ; 17,-2.2 18,-2.2 ccw(c20,-0.55) 21.987,-2.216 ; 21,4.1 24,4.1 ; 22,-2.2 23,-2.2 ccw(c25,-0.55) 26.987,-2.216 ; 26,4.1 29,4.1 ; 27,-2.2 28,-2.2 ccw(c30,-0.55) 31.987,-2.216 ; 31,4.1 34,4.1 ; 32,-2.2 33,-2.2 ccw(c35,-0.55) 36.987,-2.216 ; 36,4.1 39,4.1 ; 37,-2.2 38,-2.2 ccw(c40,-0.55) 41.987,-2.216 ; 41,4.1 44,4.1 ; 42,-2.2 43,-2.2 ccw(c45,-0.55) 46.987,-2.216 ; 46,4.1 49,4.1 ; 47,-2.2 48,-2.2 ccw(c50,-0.55) 51.987,-2.216 ; 51,4.1 54,4.1 ; 52,-2.2 53,-2.2 ccw(c55,-0.55) 56.987,-2.216 ; 56,4.1 59,4.1 ; 57,-2.2 58,-2.2 ccw(c60,-0.55) 61.987,-2.216 ; 61,4.1 64,4.1 ; 66.11,4.1 67.61,4.1 ; -7.61,-3.91 67.61,-3.91 67.61,4.91 -7.61,4.91 -7.61,-3.91 ; -6,3.1 -4,3.1 -4,4.91 -6,4.91 -6,3.1 ; -1,3.1 1,3.1 1,4.91 -1,4.91 -1,3.1 ; -0.3,5.71 0,5.11 0.3,5.71 -0.3,5.71 ; 4,3.1 6,3.1 6,4.91 4,4.91 4,3.1 ; 9,3.1 11,3.1 11,4.91 9,4.91 9,3.1 ; 14,3.1 16,3.1 16,4.91 14,4.91 14,3.1 ; 19,3.1 21,3.1 21,4.91 19,4.91 19,3.1 ; 24,3.1 26,3.1 26,4.91 24,4.91 24,3.1 ; 29,3.1 31,3.1 31,4.91 29,4.91 29,3.1 ; 34,3.1 36,3.1 36,4.91 34,4.91 34,3.1 ; 39,3.1 41,3.1 41,4.91 39,4.91 39,3.1 ; 44,3.1 46,3.1 46,4.91 44,4.91 44,3.1 ; 49,3.1 51,3.1 51,4.91 49,4.91 49,3.1 ; 54,3.1 56,3.1 56,4.91 54,4.91 54,3.1 ; 59,3.1 61,3.1 61,4.91 59,4.91 59,3.1 ; 64,3.1 66,3.1 66,4.91 64,4.91 64,3.1
B.SilkS:
  circle w0.254: c65,0 r2.21
  circle w0.254: c-5,0 r2.21
Top Assembly:
  lines w0.254: -7.5,-3.8 67.5,-3.8 67.5,4.8 -7.5,4.8 -7.5,-3.8 ; -0.5,3.55 0,2.55 0.5,3.55 -0.5,3.55
  text "'.Designator'" at 25.953,3.26 h1
Bottom Assembly:
  circle w0.254: c65,0 r2.1
  circle w0.254: c-5,0 r2.1
Top Courtyard:
  lines w0.254: -8,-4.3 68,-4.3 68,5.3 -8,5.3 -8,-4.3
Bottom Courtyard:
  circle w0.254: c65,0 r2.6
  circle w0.254: c-5,0 r2.6
Top Designator:
  text ".Designator" at 22.382,0.197 h1.52

## PhoenixContact_MSTBV_2,5_14-GF-5,08_1x14_P5.08mm_Vertical_ThreadedFlange [mm]
pads (14):
  rrect12% 2.08x3.6 hole 1.4: 1(0,0)
  rrect100% 2.08x3.6 hole 1.4: 2(5.08,0) 3(10.16,0) 4(15.24,0) 5(20.32,0) 6(25.4,0) 7(30.48,0) 8(35.56,0) 9(40.64,0) 10(45.72,0) 11(50.8,0) 12(55.88,0) 13(60.96,0) 14(66.04,0)
F.SilkS:
  circle w0.254: c71.12,0 r1.9
  circle w0.254: c71.12,0 r1
  circle w0.254: c-5.08,0 r1.9
  circle w0.254: c-5.08,0 r1
  lines w0.254: -7.73,4.1 -6.19,4.1 ; -4.08,4.1 -1,4.1 ; 1,4.1 4.08,4.1 ; 1.987,-2.216 cw(c0,-0.55) -2,-2.2 -2.74,-2.2 -2.74,3.1 68.78,3.1 68.78,-2.2 68.04,-2.2 ; 2,-2.2 3.08,-2.2 ccw(c5.08,-0.55) 7.067,-2.216 ; 6.08,4.1 9.16,4.1 ; 7.08,-2.2 8.16,-2.2 ccw(c10.16,-0.55) 12.147,-2.216 ; 11.16,4.1 14.24,4.1 ; 12.16,-2.2 13.24,-2.2 ccw(c15.24,-0.55) 17.227,-2.216 ; 16.24,4.1 19.32,4.1 ; 17.24,-2.2 18.32,-2.2 ccw(c20.32,-0.55) 22.307,-2.216 ; 21.32,4.1 24.4,4.1 ; 22.32,-2.2 23.4,-2.2 ccw(c25.4,-0.55) 27.387,-2.216 ; 26.4,4.1 29.48,4.1 ; 27.4,-2.2 28.48,-2.2 ccw(c30.48,-0.55) 32.467,-2.216 ; 31.48,4.1 34.56,4.1 ; 32.48,-2.2 33.56,-2.2 ccw(c35.56,-0.55) 37.547,-2.216 ; 36.56,4.1 39.64,4.1 ; 37.56,-2.2 38.64,-2.2 ccw(c40.64,-0.55) 42.627,-2.216 ; 41.64,4.1 44.72,4.1 ; 42.64,-2.2 43.72,-2.2 ccw(c45.72,-0.55) 47.707,-2.216 ; 46.72,4.1 49.8,4.1 ; 47.72,-2.2 48.8,-2.2 ccw(c50.8,-0.55) 52.787,-2.216 ; 51.8,4.1 54.88,4.1 ; 52.8,-2.2 53.88,-2.2 ccw(c55.88,-0.55) 57.867,-2.216 ; 56.88,4.1 59.96,4.1 ; 57.88,-2.2 58.96,-2.2 ccw(c60.96,-0.55) 62.947,-2.216 ; 61.96,4.1 65.04,4.1 ; 62.96,-2.2 64.04,-2.2 ccw(c66.04,-0.55) 68.027,-2.216 ; 67.04,4.1 70.12,4.1 ; 72.23,4.1 73.77,4.1 ; -7.73,-3.91 73.77,-3.91 73.77,4.91 -7.73,4.91 -7.73,-3.91 ; -6.08,3.1 -4.08,3.1 -4.08,4.91 -6.08,4.91 -6.08,3.1 ; -1,3.1 1,3.1 1,4.91 -1,4.91 -1,3.1 ; -0.3,5.71 0,5.11 0.3,5.71 -0.3,5.71 ; 4.08,3.1 6.08,3.1 6.08,4.91 4.08,4.91 4.08,3.1 ; 9.16,3.1 11.16,3.1 11.16,4.91 9.16,4.91 9.16,3.1 ; 14.24,3.1 16.24,3.1 16.24,4.91 14.24,4.91 14.24,3.1 ; 19.32,3.1 21.32,3.1 21.32,4.91 19.32,4.91 19.32,3.1 ; 24.4,3.1 26.4,3.1 26.4,4.91 24.4,4.91 24.4,3.1 ; 29.48,3.1 31.48,3.1 31.48,4.91 29.48,4.91 29.48,3.1 ; 34.56,3.1 36.56,3.1 36.56,4.91 34.56,4.91 34.56,3.1 ; 39.64,3.1 41.64,3.1 41.64,4.91 39.64,4.91 39.64,3.1 ; 44.72,3.1 46.72,3.1 46.72,4.91 44.72,4.91 44.72,3.1 ; 49.8,3.1 51.8,3.1 51.8,4.91 49.8,4.91 49.8,3.1 ; 54.88,3.1 56.88,3.1 56.88,4.91 54.88,4.91 54.88,3.1 ; 59.96,3.1 61.96,3.1 61.96,4.91 59.96,4.91 59.96,3.1 ; 65.04,3.1 67.04,3.1 67.04,4.91 65.04,4.91 65.04,3.1 ; 70.12,3.1 72.12,3.1 72.12,4.91 70.12,4.91 70.12,3.1
Top Assembly:
  lines w0.254: -7.62,-3.8 73.66,-3.8 73.66,4.8 -7.62,4.8 -7.62,-3.8 ; -0.5,3.55 0,2.55 0.5,3.55 -0.5,3.55
  text "'.Designator'" at 28.973,3.26 h1
Top Courtyard:
  lines w0.254: -8.13,-4.3 74.16,-4.3 74.16,5.3 -8.13,5.3 -8.13,-4.3
Top Designator:
  text ".Designator" at 25.397,0.197 h1.52

## PhoenixContact_MSTBV_2,5_14-GF-5,08_1x14_P5.08mm_Vertical_ThreadedFlange_MountHole [mm]
pads (16):
  rrect12% 2.08x3.6 hole 1.4: 1(0,0)
  rrect100% 2.08x3.6 hole 1.4: 2(5.08,0) 3(10.16,0) 4(15.24,0) 5(20.32,0) 6(25.4,0) 7(30.48,0) 8(35.56,0) 9(40.64,0) 10(45.72,0) 11(50.8,0) 12(55.88,0) 13(60.96,0) 14(66.04,0)
  round 2.4 hole 2.4: Un1(-5.08,0) Un2(71.12,0)
F.SilkS:
  circle w0.254: c71.12,0 r1.9
  circle w0.254: c-5.08,0 r1.9
  lines w0.254: -7.73,4.1 -6.19,4.1 ; -4.08,4.1 -1,4.1 ; 1,4.1 4.08,4.1 ; 1.987,-2.216 cw(c0,-0.55) -2,-2.2 -2.74,-2.2 -2.74,3.1 68.78,3.1 68.78,-2.2 68.04,-2.2 ; 2,-2.2 3.08,-2.2 ccw(c5.08,-0.55) 7.067,-2.216 ; 6.08,4.1 9.16,4.1 ; 7.08,-2.2 8.16,-2.2 ccw(c10.16,-0.55) 12.147,-2.216 ; 11.16,4.1 14.24,4.1 ; 12.16,-2.2 13.24,-2.2 ccw(c15.24,-0.55) 17.227,-2.216 ; 16.24,4.1 19.32,4.1 ; 17.24,-2.2 18.32,-2.2 ccw(c20.32,-0.55) 22.307,-2.216 ; 21.32,4.1 24.4,4.1 ; 22.32,-2.2 23.4,-2.2 ccw(c25.4,-0.55) 27.387,-2.216 ; 26.4,4.1 29.48,4.1 ; 27.4,-2.2 28.48,-2.2 ccw(c30.48,-0.55) 32.467,-2.216 ; 31.48,4.1 34.56,4.1 ; 32.48,-2.2 33.56,-2.2 ccw(c35.56,-0.55) 37.547,-2.216 ; 36.56,4.1 39.64,4.1 ; 37.56,-2.2 38.64,-2.2 ccw(c40.64,-0.55) 42.627,-2.216 ; 41.64,4.1 44.72,4.1 ; 42.64,-2.2 43.72,-2.2 ccw(c45.72,-0.55) 47.707,-2.216 ; 46.72,4.1 49.8,4.1 ; 47.72,-2.2 48.8,-2.2 ccw(c50.8,-0.55) 52.787,-2.216 ; 51.8,4.1 54.88,4.1 ; 52.8,-2.2 53.88,-2.2 ccw(c55.88,-0.55) 57.867,-2.216 ; 56.88,4.1 59.96,4.1 ; 57.88,-2.2 58.96,-2.2 ccw(c60.96,-0.55) 62.947,-2.216 ; 61.96,4.1 65.04,4.1 ; 62.96,-2.2 64.04,-2.2 ccw(c66.04,-0.55) 68.027,-2.216 ; 67.04,4.1 70.12,4.1 ; 72.23,4.1 73.77,4.1 ; -7.73,-3.91 73.77,-3.91 73.77,4.91 -7.73,4.91 -7.73,-3.91 ; -6.08,3.1 -4.08,3.1 -4.08,4.91 -6.08,4.91 -6.08,3.1 ; -1,3.1 1,3.1 1,4.91 -1,4.91 -1,3.1 ; -0.3,5.71 0,5.11 0.3,5.71 -0.3,5.71 ; 4.08,3.1 6.08,3.1 6.08,4.91 4.08,4.91 4.08,3.1 ; 9.16,3.1 11.16,3.1 11.16,4.91 9.16,4.91 9.16,3.1 ; 14.24,3.1 16.24,3.1 16.24,4.91 14.24,4.91 14.24,3.1 ; 19.32,3.1 21.32,3.1 21.32,4.91 19.32,4.91 19.32,3.1 ; 24.4,3.1 26.4,3.1 26.4,4.91 24.4,4.91 24.4,3.1 ; 29.48,3.1 31.48,3.1 31.48,4.91 29.48,4.91 29.48,3.1 ; 34.56,3.1 36.56,3.1 36.56,4.91 34.56,4.91 34.56,3.1 ; 39.64,3.1 41.64,3.1 41.64,4.91 39.64,4.91 39.64,3.1 ; 44.72,3.1 46.72,3.1 46.72,4.91 44.72,4.91 44.72,3.1 ; 49.8,3.1 51.8,3.1 51.8,4.91 49.8,4.91 49.8,3.1 ; 54.88,3.1 56.88,3.1 56.88,4.91 54.88,4.91 54.88,3.1 ; 59.96,3.1 61.96,3.1 61.96,4.91 59.96,4.91 59.96,3.1 ; 65.04,3.1 67.04,3.1 67.04,4.91 65.04,4.91 65.04,3.1 ; 70.12,3.1 72.12,3.1 72.12,4.91 70.12,4.91 70.12,3.1
B.SilkS:
  circle w0.254: c71.12,0 r2.21
  circle w0.254: c-5.08,0 r2.21
Top Assembly:
  lines w0.254: -7.62,-3.8 73.66,-3.8 73.66,4.8 -7.62,4.8 -7.62,-3.8 ; -0.5,3.55 0,2.55 0.5,3.55 -0.5,3.55
  text "'.Designator'" at 28.973,3.26 h1
Bottom Assembly:
  circle w0.254: c71.12,0 r2.1
  circle w0.254: c-5.08,0 r2.1
Top Courtyard:
  lines w0.254: -8.13,-4.3 74.16,-4.3 74.16,5.3 -8.13,5.3 -8.13,-4.3
Bottom Courtyard:
  circle w0.254: c71.12,0 r2.6
  circle w0.254: c-5.08,0 r2.6
Top Designator:
  text ".Designator" at 25.397,0.197 h1.52

## PhoenixContact_MSTBV_2,5_14-GF_1x14_P5.00mm_Vertical_ThreadedFlange [mm]
pads (14):
  rrect12% 2x3.6 hole 1.4: 1(0,0)
  rrect100% 2x3.6 hole 1.4: 2(5,0) 3(10,0) 4(15,0) 5(20,0) 6(25,0) 7(30,0) 8(35,0) 9(40,0) 10(45,0) 11(50,0) 12(55,0) 13(60,0) 14(65,0)
F.SilkS:
  circle w0.254: c70,0 r1.9
  circle w0.254: c70,0 r1
  circle w0.254: c-5,0 r1.9
  circle w0.254: c-5,0 r1
  lines w0.254: -7.61,4.1 -6.11,4.1 ; -4,4.1 -1,4.1 ; 1,4.1 4,4.1 ; 1.987,-2.216 cw(c0,-0.55) -2,-2.2 -2.7,-2.2 -2.7,3.1 67.7,3.1 67.7,-2.2 67,-2.2 ; 2,-2.2 3,-2.2 ccw(c5,-0.55) 6.987,-2.216 ; 6,4.1 9,4.1 ; 7,-2.2 8,-2.2 ccw(c10,-0.55) 11.987,-2.216 ; 11,4.1 14,4.1 ; 12,-2.2 13,-2.2 ccw(c15,-0.55) 16.987,-2.216 ; 16,4.1 19,4.1 ; 17,-2.2 18,-2.2 ccw(c20,-0.55) 21.987,-2.216 ; 21,4.1 24,4.1 ; 22,-2.2 23,-2.2 ccw(c25,-0.55) 26.987,-2.216 ; 26,4.1 29,4.1 ; 27,-2.2 28,-2.2 ccw(c30,-0.55) 31.987,-2.216 ; 31,4.1 34,4.1 ; 32,-2.2 33,-2.2 ccw(c35,-0.55) 36.987,-2.216 ; 36,4.1 39,4.1 ; 37,-2.2 38,-2.2 ccw(c40,-0.55) 41.987,-2.216 ; 41,4.1 44,4.1 ; 42,-2.2 43,-2.2 ccw(c45,-0.55) 46.987,-2.216 ; 46,4.1 49,4.1 ; 47,-2.2 48,-2.2 ccw(c50,-0.55) 51.987,-2.216 ; 51,4.1 54,4.1 ; 52,-2.2 53,-2.2 ccw(c55,-0.55) 56.987,-2.216 ; 56,4.1 59,4.1 ; 57,-2.2 58,-2.2 ccw(c60,-0.55) 61.987,-2.216 ; 61,4.1 64,4.1 ; 62,-2.2 63,-2.2 ccw(c65,-0.55) 66.987,-2.216 ; 66,4.1 69,4.1 ; 71.11,4.1 72.61,4.1 ; -7.61,-3.91 72.61,-3.91 72.61,4.91 -7.61,4.91 -7.61,-3.91 ; -6,3.1 -4,3.1 -4,4.91 -6,4.91 -6,3.1 ; -1,3.1 1,3.1 1,4.91 -1,4.91 -1,3.1 ; -0.3,5.71 0,5.11 0.3,5.71 -0.3,5.71 ; 4,3.1 6,3.1 6,4.91 4,4.91 4,3.1 ; 9,3.1 11,3.1 11,4.91 9,4.91 9,3.1 ; 14,3.1 16,3.1 16,4.91 14,4.91 14,3.1 ; 19,3.1 21,3.1 21,4.91 19,4.91 19,3.1 ; 24,3.1 26,3.1 26,4.91 24,4.91 24,3.1 ; 29,3.1 31,3.1 31,4.91 29,4.91 29,3.1 ; 34,3.1 36,3.1 36,4.91 34,4.91 34,3.1 ; 39,3.1 41,3.1 41,4.91 39,4.91 39,3.1 ; 44,3.1 46,3.1 46,4.91 44,4.91 44,3.1 ; 49,3.1 51,3.1 51,4.91 49,4.91 49,3.1 ; 54,3.1 56,3.1 56,4.91 54,4.91 54,3.1 ; 59,3.1 61,3.1 61,4.91 59,4.91 59,3.1 ; 64,3.1 66,3.1 66,4.91 64,4.91 64,3.1 ; 69,3.1 71,3.1 71,4.91 69,4.91 69,3.1
Top Assembly:
  lines w0.254: -7.5,-3.8 72.5,-3.8 72.5,4.8 -7.5,4.8 -7.5,-3.8 ; -0.5,3.55 0,2.55 0.5,3.55 -0.5,3.55
  text "'.Designator'" at 28.453,3.26 h1
Top Courtyard:
  lines w0.254: -8,-4.3 73,-4.3 73,5.3 -8,5.3 -8,-4.3
Top Designator:
  text ".Designator" at 24.882,0.197 h1.52

## PhoenixContact_MSTBV_2,5_14-GF_1x14_P5.00mm_Vertical_ThreadedFlange_MountHole [mm]
pads (16):
  rrect12% 2x3.6 hole 1.4: 1(0,0)
  rrect100% 2x3.6 hole 1.4: 2(5,0) 3(10,0) 4(15,0) 5(20,0) 6(25,0) 7(30,0) 8(35,0) 9(40,0) 10(45,0) 11(50,0) 12(55,0) 13(60,0) 14(65,0)
  round 2.4 hole 2.4: Un1(-5,0) Un2(70,0)
F.SilkS:
  circle w0.254: c70,0 r1.9
  circle w0.254: c-5,0 r1.9
  lines w0.254: -7.61,4.1 -6.11,4.1 ; -4,4.1 -1,4.1 ; 1,4.1 4,4.1 ; 1.987,-2.216 cw(c0,-0.55) -2,-2.2 -2.7,-2.2 -2.7,3.1 67.7,3.1 67.7,-2.2 67,-2.2 ; 2,-2.2 3,-2.2 ccw(c5,-0.55) 6.987,-2.216 ; 6,4.1 9,4.1 ; 7,-2.2 8,-2.2 ccw(c10,-0.55) 11.987,-2.216 ; 11,4.1 14,4.1 ; 12,-2.2 13,-2.2 ccw(c15,-0.55) 16.987,-2.216 ; 16,4.1 19,4.1 ; 17,-2.2 18,-2.2 ccw(c20,-0.55) 21.987,-2.216 ; 21,4.1 24,4.1 ; 22,-2.2 23,-2.2 ccw(c25,-0.55) 26.987,-2.216 ; 26,4.1 29,4.1 ; 27,-2.2 28,-2.2 ccw(c30,-0.55) 31.987,-2.216 ; 31,4.1 34,4.1 ; 32,-2.2 33,-2.2 ccw(c35,-0.55) 36.987,-2.216 ; 36,4.1 39,4.1 ; 37,-2.2 38,-2.2 ccw(c40,-0.55) 41.987,-2.216 ; 41,4.1 44,4.1 ; 42,-2.2 43,-2.2 ccw(c45,-0.55) 46.987,-2.216 ; 46,4.1 49,4.1 ; 47,-2.2 48,-2.2 ccw(c50,-0.55) 51.987,-2.216 ; 51,4.1 54,4.1 ; 52,-2.2 53,-2.2 ccw(c55,-0.55) 56.987,-2.216 ; 56,4.1 59,4.1 ; 57,-2.2 58,-2.2 ccw(c60,-0.55) 61.987,-2.216 ; 61,4.1 64,4.1 ; 62,-2.2 63,-2.2 ccw(c65,-0.55) 66.987,-2.216 ; 66,4.1 69,4.1 ; 71.11,4.1 72.61,4.1 ; -7.61,-3.91 72.61,-3.91 72.61,4.91 -7.61,4.91 -7.61,-3.91 ; -6,3.1 -4,3.1 -4,4.91 -6,4.91 -6,3.1 ; -1,3.1 1,3.1 1,4.91 -1,4.91 -1,3.1 ; -0.3,5.71 0,5.11 0.3,5.71 -0.3,5.71 ; 4,3.1 6,3.1 6,4.91 4,4.91 4,3.1 ; 9,3.1 11,3.1 11,4.91 9,4.91 9,3.1 ; 14,3.1 16,3.1 16,4.91 14,4.91 14,3.1 ; 19,3.1 21,3.1 21,4.91 19,4.91 19,3.1 ; 24,3.1 26,3.1 26,4.91 24,4.91 24,3.1 ; 29,3.1 31,3.1 31,4.91 29,4.91 29,3.1 ; 34,3.1 36,3.1 36,4.91 34,4.91 34,3.1 ; 39,3.1 41,3.1 41,4.91 39,4.91 39,3.1 ; 44,3.1 46,3.1 46,4.91 44,4.91 44,3.1 ; 49,3.1 51,3.1 51,4.91 49,4.91 49,3.1 ; 54,3.1 56,3.1 56,4.91 54,4.91 54,3.1 ; 59,3.1 61,3.1 61,4.91 59,4.91 59,3.1 ; 64,3.1 66,3.1 66,4.91 64,4.91 64,3.1 ; 69,3.1 71,3.1 71,4.91 69,4.91 69,3.1
B.SilkS:
  circle w0.254: c70,0 r2.21
  circle w0.254: c-5,0 r2.21
Top Assembly:
  lines w0.254: -7.5,-3.8 72.5,-3.8 72.5,4.8 -7.5,4.8 -7.5,-3.8 ; -0.5,3.55 0,2.55 0.5,3.55 -0.5,3.55
  text "'.Designator'" at 28.453,3.26 h1
Bottom Assembly:
  circle w0.254: c70,0 r2.1
  circle w0.254: c-5,0 r2.1
Top Courtyard:
  lines w0.254: -8,-4.3 73,-4.3 73,5.3 -8,5.3 -8,-4.3
Bottom Courtyard:
  circle w0.254: c70,0 r2.6
  circle w0.254: c-5,0 r2.6
Top Designator:
  text ".Designator" at 24.882,0.197 h1.52

## PhoenixContact_MSTBV_2,5_15-GF-5,08_1x15_P5.08mm_Vertical_ThreadedFlange [mm]
pads (15):
  rrect12% 2.08x3.6 hole 1.4: 1(0,0)
  rrect100% 2.08x3.6 hole 1.4: 2(5.08,0) 3(10.16,0) 4(15.24,0) 5(20.32,0) 6(25.4,0) 7(30.48,0) 8(35.56,0) 9(40.64,0) 10(45.72,0) 11(50.8,0) 12(55.88,0) 13(60.96,0) 14(66.04,0) 15(71.12,0)
F.SilkS:
  circle w0.254: c76.2,0 r1.9
  circle w0.254: c76.2,0 r1
  circle w0.254: c-5.08,0 r1.9
  circle w0.254: c-5.08,0 r1
  lines w0.254: -7.73,4.1 -6.19,4.1 ; -4.08,4.1 -1,4.1 ; 1,4.1 4.08,4.1 ; 1.987,-2.216 cw(c0,-0.55) -2,-2.2 -2.74,-2.2 -2.74,3.1 73.86,3.1 73.86,-2.2 73.12,-2.2 ; 2,-2.2 3.08,-2.2 ccw(c5.08,-0.55) 7.067,-2.216 ; 6.08,4.1 9.16,4.1 ; 7.08,-2.2 8.16,-2.2 ccw(c10.16,-0.55) 12.147,-2.216 ; 11.16,4.1 14.24,4.1 ; 12.16,-2.2 13.24,-2.2 ccw(c15.24,-0.55) 17.227,-2.216 ; 16.24,4.1 19.32,4.1 ; 17.24,-2.2 18.32,-2.2 ccw(c20.32,-0.55) 22.307,-2.216 ; 21.32,4.1 24.4,4.1 ; 22.32,-2.2 23.4,-2.2 ccw(c25.4,-0.55) 27.387,-2.216 ; 26.4,4.1 29.48,4.1 ; 27.4,-2.2 28.48,-2.2 ccw(c30.48,-0.55) 32.467,-2.216 ; 31.48,4.1 34.56,4.1 ; 32.48,-2.2 33.56,-2.2 ccw(c35.56,-0.55) 37.547,-2.216 ; 36.56,4.1 39.64,4.1 ; 37.56,-2.2 38.64,-2.2 ccw(c40.64,-0.55) 42.627,-2.216 ; 41.64,4.1 44.72,4.1 ; 42.64,-2.2 43.72,-2.2 ccw(c45.72,-0.55) 47.707,-2.216 ; 46.72,4.1 49.8,4.1 ; 47.72,-2.2 48.8,-2.2 ccw(c50.8,-0.55) 52.787,-2.216 ; 51.8,4.1 54.88,4.1 ; 52.8,-2.2 53.88,-2.2 ccw(c55.88,-0.55) 57.867,-2.216 ; 56.88,4.1 59.96,4.1 ; 57.88,-2.2 58.96,-2.2 ccw(c60.96,-0.55) 62.947,-2.216 ; 61.96,4.1 65.04,4.1 ; 62.96,-2.2 64.04,-2.2 ccw(c66.04,-0.55) 68.027,-2.216 ; 67.04,4.1 70.12,4.1 ; 68.04,-2.2 69.12,-2.2 ccw(c71.12,-0.55) 73.107,-2.216 ; 72.12,4.1 75.2,4.1 ; 77.31,4.1 78.85,4.1 ; -7.73,-3.91 78.85,-3.91 78.85,4.91 -7.73,4.91 -7.73,-3.91 ; -6.08,3.1 -4.08,3.1 -4.08,4.91 -6.08,4.91 -6.08,3.1 ; -1,3.1 1,3.1 1,4.91 -1,4.91 -1,3.1 ; -0.3,5.71 0,5.11 0.3,5.71 -0.3,5.71 ; 4.08,3.1 6.08,3.1 6.08,4.91 4.08,4.91 4.08,3.1 ; 9.16,3.1 11.16,3.1 11.16,4.91 9.16,4.91 9.16,3.1 ; 14.24,3.1 16.24,3.1 16.24,4.91 14.24,4.91 14.24,3.1 ; 19.32,3.1 21.32,3.1 21.32,4.91 19.32,4.91 19.32,3.1 ; 24.4,3.1 26.4,3.1 26.4,4.91 24.4,4.91 24.4,3.1 ; 29.48,3.1 31.48,3.1 31.48,4.91 29.48,4.91 29.48,3.1 ; 34.56,3.1 36.56,3.1 36.56,4.91 34.56,4.91 34.56,3.1 ; 39.64,3.1 41.64,3.1 41.64,4.91 39.64,4.91 39.64,3.1 ; 44.72,3.1 46.72,3.1 46.72,4.91 44.72,4.91 44.72,3.1 ; 49.8,3.1 51.8,3.1 51.8,4.91 49.8,4.91 49.8,3.1 ; 54.88,3.1 56.88,3.1 56.88,4.91 54.88,4.91 54.88,3.1 ; 59.96,3.1 61.96,3.1 61.96,4.91 59.96,4.91 59.96,3.1 ; 65.04,3.1 67.04,3.1 67.04,4.91 65.04,4.91 65.04,3.1 ; 70.12,3.1 72.12,3.1 72.12,4.91 70.12,4.91 70.12,3.1 ; 75.2,3.1 77.2,3.1 77.2,4.91 75.2,4.91 75.2,3.1
Top Assembly:
  lines w0.254: -7.62,-3.8 78.74,-3.8 78.74,4.8 -7.62,4.8 -7.62,-3.8 ; -0.5,3.55 0,2.55 0.5,3.55 -0.5,3.55
  text "'.Designator'" at 31.513,3.26 h1
Top Courtyard:
  lines w0.254: -8.13,-4.3 79.24,-4.3 79.24,5.3 -8.13,5.3 -8.13,-4.3
Top Designator:
  text ".Designator" at 27.937,0.197 h1.52

## PhoenixContact_MSTBV_2,5_15-GF-5,08_1x15_P5.08mm_Vertical_ThreadedFlange_MountHole [mm]
pads (17):
  rrect12% 2.08x3.6 hole 1.4: 1(0,0)
  rrect100% 2.08x3.6 hole 1.4: 2(5.08,0) 3(10.16,0) 4(15.24,0) 5(20.32,0) 6(25.4,0) 7(30.48,0) 8(35.56,0) 9(40.64,0) 10(45.72,0) 11(50.8,0) 12(55.88,0) 13(60.96,0) 14(66.04,0) 15(71.12,0)
  round 2.4 hole 2.4: Un1(-5.08,0) Un2(76.2,0)
F.SilkS:
  circle w0.254: c76.2,0 r1.9
  circle w0.254: c-5.08,0 r1.9
  lines w0.254: -7.73,4.1 -6.19,4.1 ; -4.08,4.1 -1,4.1 ; 1,4.1 4.08,4.1 ; 1.987,-2.216 cw(c0,-0.55) -2,-2.2 -2.74,-2.2 -2.74,3.1 73.86,3.1 73.86,-2.2 73.12,-2.2 ; 2,-2.2 3.08,-2.2 ccw(c5.08,-0.55) 7.067,-2.216 ; 6.08,4.1 9.16,4.1 ; 7.08,-2.2 8.16,-2.2 ccw(c10.16,-0.55) 12.147,-2.216 ; 11.16,4.1 14.24,4.1 ; 12.16,-2.2 13.24,-2.2 ccw(c15.24,-0.55) 17.227,-2.216 ; 16.24,4.1 19.32,4.1 ; 17.24,-2.2 18.32,-2.2 ccw(c20.32,-0.55) 22.307,-2.216 ; 21.32,4.1 24.4,4.1 ; 22.32,-2.2 23.4,-2.2 ccw(c25.4,-0.55) 27.387,-2.216 ; 26.4,4.1 29.48,4.1 ; 27.4,-2.2 28.48,-2.2 ccw(c30.48,-0.55) 32.467,-2.216 ; 31.48,4.1 34.56,4.1 ; 32.48,-2.2 33.56,-2.2 ccw(c35.56,-0.55) 37.547,-2.216 ; 36.56,4.1 39.64,4.1 ; 37.56,-2.2 38.64,-2.2 ccw(c40.64,-0.55) 42.627,-2.216 ; 41.64,4.1 44.72,4.1 ; 42.64,-2.2 43.72,-2.2 ccw(c45.72,-0.55) 47.707,-2.216 ; 46.72,4.1 49.8,4.1 ; 47.72,-2.2 48.8,-2.2 ccw(c50.8,-0.55) 52.787,-2.216 ; 51.8,4.1 54.88,4.1 ; 52.8,-2.2 53.88,-2.2 ccw(c55.88,-0.55) 57.867,-2.216 ; 56.88,4.1 59.96,4.1 ; 57.88,-2.2 58.96,-2.2 ccw(c60.96,-0.55) 62.947,-2.216 ; 61.96,4.1 65.04,4.1 ; 62.96,-2.2 64.04,-2.2 ccw(c66.04,-0.55) 68.027,-2.216 ; 67.04,4.1 70.12,4.1 ; 68.04,-2.2 69.12,-2.2 ccw(c71.12,-0.55) 73.107,-2.216 ; 72.12,4.1 75.2,4.1 ; 77.31,4.1 78.85,4.1 ; -7.73,-3.91 78.85,-3.91 78.85,4.91 -7.73,4.91 -7.73,-3.91 ; -6.08,3.1 -4.08,3.1 -4.08,4.91 -6.08,4.91 -6.08,3.1 ; -1,3.1 1,3.1 1,4.91 -1,4.91 -1,3.1 ; -0.3,5.71 0,5.11 0.3,5.71 -0.3,5.71 ; 4.08,3.1 6.08,3.1 6.08,4.91 4.08,4.91 4.08,3.1 ; 9.16,3.1 11.16,3.1 11.16,4.91 9.16,4.91 9.16,3.1 ; 14.24,3.1 16.24,3.1 16.24,4.91 14.24,4.91 14.24,3.1 ; 19.32,3.1 21.32,3.1 21.32,4.91 19.32,4.91 19.32,3.1 ; 24.4,3.1 26.4,3.1 26.4,4.91 24.4,4.91 24.4,3.1 ; 29.48,3.1 31.48,3.1 31.48,4.91 29.48,4.91 29.48,3.1 ; 34.56,3.1 36.56,3.1 36.56,4.91 34.56,4.91 34.56,3.1 ; 39.64,3.1 41.64,3.1 41.64,4.91 39.64,4.91 39.64,3.1 ; 44.72,3.1 46.72,3.1 46.72,4.91 44.72,4.91 44.72,3.1 ; 49.8,3.1 51.8,3.1 51.8,4.91 49.8,4.91 49.8,3.1 ; 54.88,3.1 56.88,3.1 56.88,4.91 54.88,4.91 54.88,3.1 ; 59.96,3.1 61.96,3.1 61.96,4.91 59.96,4.91 59.96,3.1 ; 65.04,3.1 67.04,3.1 67.04,4.91 65.04,4.91 65.04,3.1 ; 70.12,3.1 72.12,3.1 72.12,4.91 70.12,4.91 70.12,3.1 ; 75.2,3.1 77.2,3.1 77.2,4.91 75.2,4.91 75.2,3.1
B.SilkS:
  circle w0.254: c76.2,0 r2.21
  circle w0.254: c-5.08,0 r2.21
Top Assembly:
  lines w0.254: -7.62,-3.8 78.74,-3.8 78.74,4.8 -7.62,4.8 -7.62,-3.8 ; -0.5,3.55 0,2.55 0.5,3.55 -0.5,3.55
  text "'.Designator'" at 31.513,3.26 h1
Bottom Assembly:
  circle w0.254: c76.2,0 r2.1
  circle w0.254: c-5.08,0 r2.1
Top Courtyard:
  lines w0.254: -8.13,-4.3 79.24,-4.3 79.24,5.3 -8.13,5.3 -8.13,-4.3
Bottom Courtyard:
  circle w0.254: c76.2,0 r2.6
  circle w0.254: c-5.08,0 r2.6
Top Designator:
  text ".Designator" at 27.937,0.197 h1.52